# EAGLE library part KX134-1211 (library kx134)
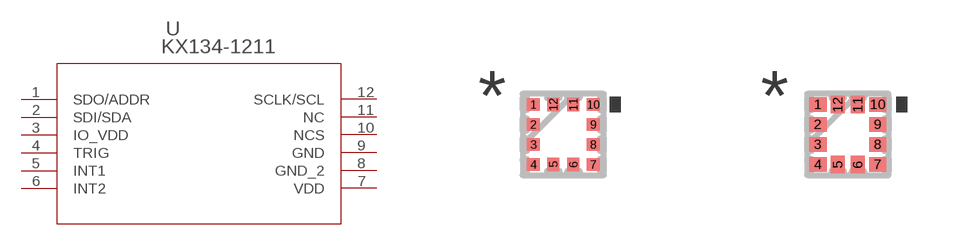
[diagram p0: symbol with the pads of LGA12_2X2X0P9_ROM; footprints LGA12_2X2X0P9_ROM, LGA12_2X2X0P9_ROM-M]

Designator prefix U

## KX134-1211 (COPYRIGHT: Copyright (C) 2024 Ultra Librarian. All rights reserved.; MANUFACTURER_PART_NUMBER: KX134-1211; MFR_NAME: ROHM Semiconductor)  [LGA12_2X2X0P9_ROM]
1  SDO/ADDR
2  SDI/SDA
3  IO_VDD  pwr
4  TRIG  in
5  INT1  out
6  INT2  out
7  VDD  pwr
8  GND_2  pas
9  GND  pas
10  NCS  in
11  NC  nc
12  SCLK/SCL  in

## KX134-1211LGA12_2X2X0P9_ROM-M (COPYRIGHT: Copyright (C) 2024 Ultra Librarian. All rights reserved.; MANUFACTURER_PART_NUMBER: KX134-1211; MFR_NAME: ROHM Semiconductor)  [LGA12_2X2X0P9_ROM-M]
Pads as for LGA12_2X2X0P9_ROM

## KX134-1211LGA12_2X2X0P9_ROM-L (COPYRIGHT: Copyright (C) 2024 Ultra Librarian. All rights reserved.; MANUFACTURER_PART_NUMBER: KX134-1211; MFR_NAME: ROHM Semiconductor)  [LGA12_2X2X0P9_ROM-L]
Pads as for LGA12_2X2X0P9_ROM

## Footprint LGA12_2X2X0P9_ROM (pad centres in mm)
smd 0.33 x 0.305: 1 -0.749,0.75; 2 -0.749,0.25; 3 -0.749,-0.25; 4 -0.749,-0.75; 7 0.749,-0.75; 8 0.749,-0.25; 9 0.749,0.25; 10 0.749,0.75
smd 0.305 x 0.33: 5 -0.25,-0.749; 6 0.25,-0.749; 11 0.25,0.749; 12 -0.25,0.749

## Footprint LGA12_2X2X0P9_ROM-M (pad centres in mm)
smd 0.432 x 0.356: 1 -0.749,0.75; 2 -0.749,0.25; 3 -0.749,-0.25; 4 -0.749,-0.75; 7 0.749,-0.75; 8 0.749,-0.25; 9 0.749,0.25; 10 0.749,0.75
smd 0.356 x 0.432: 5 -0.25,-0.749; 6 0.25,-0.749; 11 0.25,0.749; 12 -0.25,0.749

## Footprint LGA12_2X2X0P9_ROM-L (pad centres in mm)
smd 0.229 x 0.254: 1 -0.749,0.75; 2 -0.749,0.25; 3 -0.749,-0.25; 4 -0.749,-0.75; 7 0.749,-0.75; 8 0.749,-0.25; 9 0.749,0.25; 10 0.749,0.75
smd 0.254 x 0.229: 5 -0.25,-0.749; 6 0.25,-0.749; 11 0.25,0.749; 12 -0.25,0.749